# EAGLE library part MAX766 (library ICs)
-15V High-Efficiency, Low IQ DC-DC Inverter
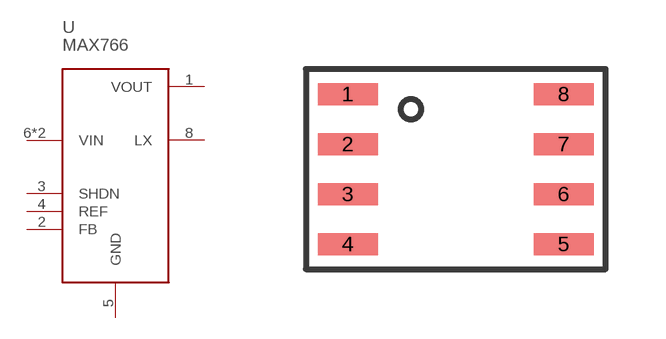
[diagram p191: symbol with the pads of SO8; footprint SO8]

Designator prefix U

## MAX766CSA+ (DIGIKEY: MAX766CSA+-ND; HEIGHT: 2; PRICE_PER: 5.3; VALUE: MAX766)  [SO8]
1  VOUT
2  FB
3  SHDN
4  REF
5  GND
6  VIN
7  VIN
8  LX

## Footprint SO8 (pad centres in mm)
smd 1.5 x 0.55: 1 -2.7,1.875; 2 -2.7,0.625; 3 -2.7,-0.625; 4 -2.7,-1.875; 5 2.7,-1.875; 6 2.7,-0.625; 7 2.7,0.625; 8 2.7,1.875